# Altium schematic symbol library 5015681107.Schlib: 1 symbol
Pins are listed as number, name and electrical type; pins without a type are passive.

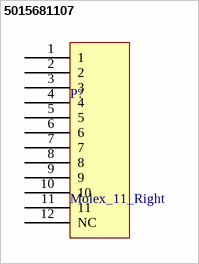
[diagram p0: symbol 5015681107]

## 5015681107
designator P?, comment Molex_11_Right
11 Pin Right Molex PCB Header
pins: 1, 2, 3, 4, 5, 6, 7, 8, 9, 10, 11, 12 NC